# Altium schematic symbol library MCP MCP1700 MB.SchLib: 1 symbol
Pins are listed as number, name and electrical type; pins without a type are passive.

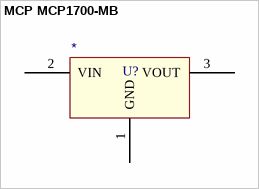
[diagram p0: symbol MCP MCP1700-MB]

## MCP MCP1700-MB
designator U?
Part Number: *
pins: 1 GND (power), 2 VIN (power), 3 VOUT (power)